# Altium footprint library voltage-regulator.PcbLib: 3 footprints
Each footprint in its own frame and in the unit in brackets; x right, y up, seen from the top. Pads: shape width x height; smd on the part's side, far side on the other; paste and mask are expansions set on the pad; w line width, h text height; cw(c..) or ccw(c..) is an arc to the next point about the centre after c.
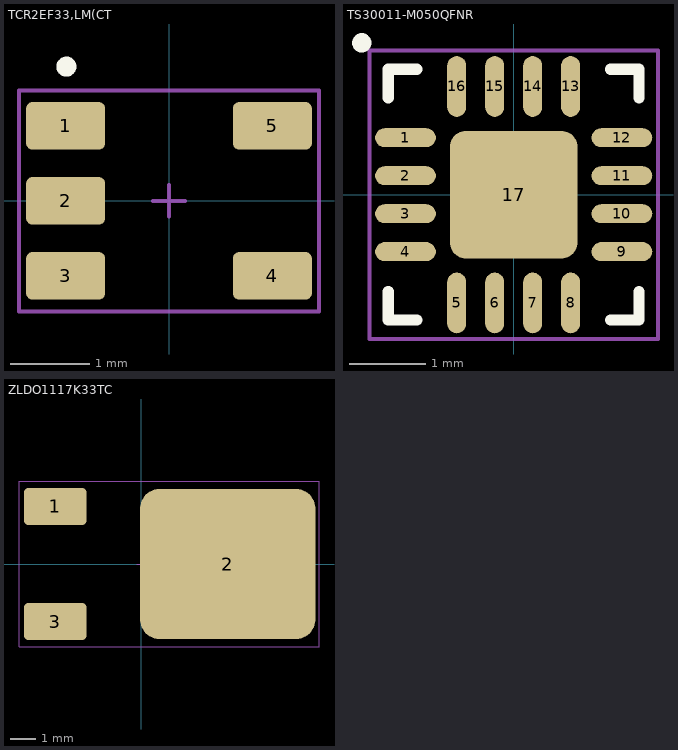
[diagram p0: the footprints below, top view; thin cyan lines are the x and y axes]

## TCR2EF33,LM(CT [mm] "SOT23, 5-Leads, Body 2.90x2.80mm, Pitch 0.95mm, IPC Medium Density"
height 1.12
pads (5):
  rrect25% 1x0.6 smd: 1(-1.31,0.95) 2(-1.31,0) 3(-1.31,-0.95) 4(1.31,-0.95) 5(1.31,0.95)
Top Overlay:
  circle w0.154: c-1.3,1.7 r0.05
Top Assembly:
  lines w0.05: -1.9,-1.4 1.9,-1.4 1.9,1.4 -1.9,1.4 -1.9,-1.4
Top Placement:
  lines w0.05: -0.2,0 0.2,0 ; 0,-0.2 0,0.2 ; -1.9,-1.4 1.9,-1.4 1.9,1.4 -1.9,1.4 -1.9,-1.4
3D body "SOT95P280X112-5N.step": height 1.12, standoff 0, extent -1.41,-1.46 1.41,1.46

## TS30011-M050QFNR [mm] "QFN, 16-Leads, Body 3.00x3.00mm, Pitch 0.50mm, Thermal Pad 1.68x1.68mm, IPC Medium Density"
height 1
pads (17):
  oval 0.8x0.25 smd: 1(-1.425,0.75) 2(-1.425,0.25) 3(-1.425,-0.25) 4(-1.425,-0.75) 9(1.425,-0.75) 10(1.425,-0.25) 11(1.425,0.25) 12(1.425,0.75)
  oval 0.25x0.8 smd: 5(-0.75,-1.425) 6(-0.25,-1.425) 7(0.25,-1.425) 8(0.75,-1.425) 13(0.75,1.425) 14(0.25,1.425) 15(-0.25,1.425) 16(-0.75,1.425)
  rrect25% 1.68x1.68 smd: 17(0,0)
Top Overlay:
  circle w0.154: c-2,2 r0.05
  lines w0.15: -1.65,-1.275 -1.65,-1.65 -1.275,-1.65 ; -1.65,1.275 -1.65,1.65 -1.275,1.65 ; 1.275,-1.65 1.65,-1.65 1.65,-1.275 ; 1.275,1.65 1.65,1.65 1.65,1.275
Top Assembly:
  lines w0.05: -1.9,-1.9 -1.9,1.9 1.9,1.9 1.9,-1.9 -1.9,-1.9
Top Placement:
  lines w0.05: -0.2,0 0.2,0 ; 0,-0.2 0,0.2 ; -1.9,-1.9 -1.9,1.9 1.9,1.9 1.9,-1.9 -1.9,-1.9
3D body "QFN50P300X300X100_HS-17N.step": height 1, standoff 0, extent -1.501,-1.501 1.501,1.501

## ZLDO1117K33TC [mm] "D-PAK, 3-Pads, Body 6.45x6.59mm (max), IPC Medium Density"
height 2.39
pads (3):
  rrect25% 2.5x1.5 smd: 1(-3.45,2.3) 3(-3.45,-2.3)
  rrect25% 7x6 smd: 2(3.45,0)
Top Assembly:
  lines w0.05: -4.9,-3.3 7.1,-3.3 7.1,3.3 -4.9,3.3 -4.9,-3.3
Top Placement:
  lines w0.05: -0.2,0 0.2,0 ; 0,-0.2 0,0.2 ; -4.9,-3.3 7.1,-3.3 7.1,3.3 -4.9,3.3 -4.9,-3.3
3D body "DPAK229P991X239-3N.step": height 2.39, standoff 0, extent -3.865,-3.225 6.04,3.225